# EAGLE library part MCP6H04 (library NixieDisplay)
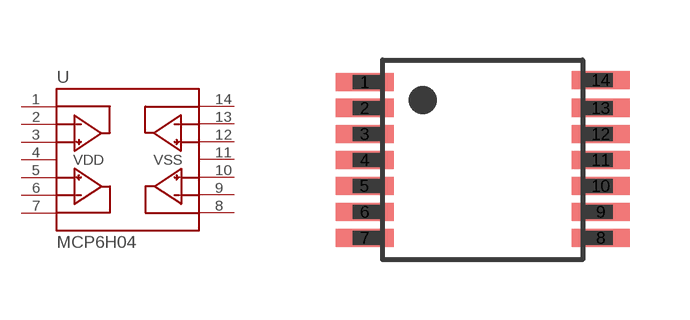
[diagram p8: symbol with the pads of TSSOP-14; footprint TSSOP-14]

Designator prefix U

## MCP6H04  [TSSOP-14]
1  VOUT_A
2  VIN_A-
3  VIN_A+
4  VDD  pwr
5  VIN_B+
6  VIN_B-
7  VOUT_B
8  VOUT_C
9  VIN_C-
10  VIN_C+
11  VSS  pwr
12  VIN_D+
13  VIN_D-
14  VOUT_D

## Footprint TSSOP-14 (pad centres in mm)
smd 1.45 x 0.45: 1 -2.95,1.95; 2 -2.95,1.3; 3 -2.95,0.65; 4 -2.95,0; 5 -2.95,-0.65; 6 -2.95,-1.3; 7 -2.95,-1.95; 8 2.95,-1.95; 9 2.95,-1.3; 10 2.95,-0.65; 11 2.95,0; 12 2.95,0.65; 13 2.95,1.3; 14 2.95,2